# Altium footprint library RC207.PcbLib: 1 footprints
Each footprint in its own frame and in the unit in brackets; x right, y up, seen from the top. Pads: shape width x height; smd on the part's side, far side on the other; paste and mask are expansions set on the pad; w line width, h text height; cw(c..) or ccw(c..) is an arc to the next point about the centre after c.
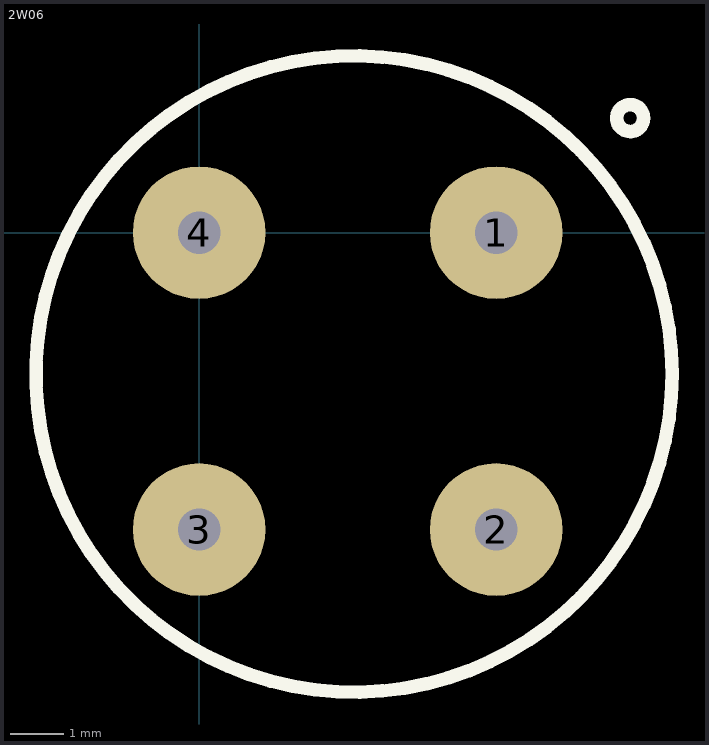
[diagram p0: the footprint, top view; thin cyan lines are the x and y axes]

## 2W06 [mm]
pads (4):
  round 2.5 hole 0.8: 1(5.6,0) 2(5.6,-5.6) 3(0,-5.6) 4(0,0)
Top Overlay:
  circle w0.254: c2.921,-2.667 r6
  circle w0.254: c8.128,2.159 r0.254
3D body "Bridge Rectifiers 2W06.STEP": height 15, standoff -3, extent -2.032,-7.675 6.968,1.325